# Altium footprint library Common-Parts-Library.PcbLib: 5 footprints
Each footprint in its own frame and in the unit in brackets; x right, y up, seen from the top. Pads: shape width x height; smd on the part's side, far side on the other; paste and mask are expansions set on the pad; w line width, h text height; cw(c..) or ccw(c..) is an arc to the next point about the centre after c.
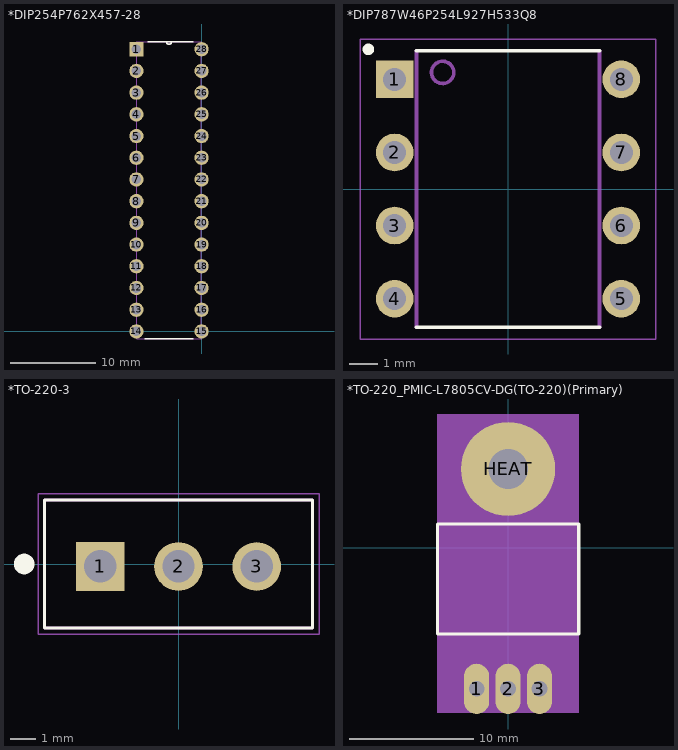
[diagram p0: the footprints below, top view; thin cyan lines are the x and y axes]

## *DIP254P762X457-28 [mil]
pads (28):
  rect 66x66 hole 44: 1(-300,1300)
  round 66 hole 44: 2(-300,1200) 3(-300,1100) 4(-300,1000) 5(-300,900) 6(-300,800) 7(-300,700) 8(-300,600) 9(-300,500) 10(-300,400) 11(-300,300) 12(-300,200) 13(-300,100) 14(-300,0) 15(0,0) 16(0,100) 17(0,200) 18(0,300) 19(0,400) 20(0,500) 21(0,600) 22(0,700) 23(0,800) 24(0,900) 25(0,1000) 26(0,1100) 27(0,1200) 28(0,1300)
Top Overlay:
  lines w6: -262,-35 -38,-35 ; -248,1335 -162,1335 ; -38,1335 -138,1335 ; -162,1335 ccw(c-150,1335) -138,1335 ; -162,1335 -138,1335
Mechanical 4:
  drawing of 238 lines, arcs and shapes, not listed

## *DIP787W46P254L927H533Q8 [mm]
pads (8):
  rect 1.308x1.308 hole 0.8: 1(-3.935,3.81)
  round 1.308 hole 0.8: 2(-3.935,1.27) 3(-3.935,-1.27) 4(-3.935,-3.81) 5(3.935,-3.81) 6(3.935,-1.27) 7(3.935,1.27) 8(3.935,3.81)
Top Overlay:
  circle w0.2: c-4.85,4.85 r0.1
  lines w0.127: -3.18,-4.8 3.18,-4.8 ; -3.18,4.8 3.18,4.8
Mechanical 4:
  circle w0.127: c-2.27,4.05 r0.386
  circle w0.127: c-2.27,4.05 r0.386
  lines w0.127: -3.18,-4.8 -3.18,4.8 -3.18,-4.8 ; 3.18,-4.8 3.18,4.8 3.18,-4.8
Mechanical 16:
  lines w0.05: -5.13,-5.21 -5.13,5.21 5.13,5.21 5.13,-5.21 -5.13,-5.21

## *TO-220-3 [mm]
pads (3):
  rect 1.89x1.89 hole 1.26: 1(-3.04,-0.095)
  round 1.89 hole 1.26: 2(0,-0.095) 3(3.04,-0.095)
Top Overlay:
  circle w0.4: c-6,0 r0.2
  lines w0.127: -5.21,-2.49 5.21,-2.49 5.21,2.49 -5.21,2.49 -5.21,-2.49
Mechanical 4:
  circle w0.4: c-3.04,-0.095 r0.2
  circle w0.4: c-3.04,-0.095 r0.2
  lines w0.127: -5.21,-2.49 5.21,-2.49 ; -5.21,-2.49 -5.21,2.49 ; -5.21,-2.49 5.21,-2.49 ; -5.21,-2.49 -5.21,2.49 ; -5.21,2.49 5.21,2.49 ; -5.21,2.49 5.21,2.49 ; 5.21,-2.49 5.21,2.49 ; 5.21,-2.49 5.21,2.49
Mechanical 16:
  lines w0.05: -5.46,-2.74 -5.46,2.74 5.46,2.74 5.46,-2.74 -5.46,-2.74

## *TO-220_PMIC-L7805CV-DG(TO-220)(Primary) [mil]
pads (4):
  oval 80x160 hole 50: 1(-100,-450) 2(0,-450) 3(100,-450)
  round 300 hole 126: HEAT(0,250)
Top Overlay:
  lines w10: -225,-275 -225,75 225,75 225,-275 -225,-275
Mechanical 16:
  region: -225.37,425 225,425 225,-525.85 -225.37,-525.85

## PCBComponent_1 [mil]